# Altium schematic symbol library Capacitors.SchLib: 12 symbols
Pins are listed as number, name and electrical type; pins without a type are passive.

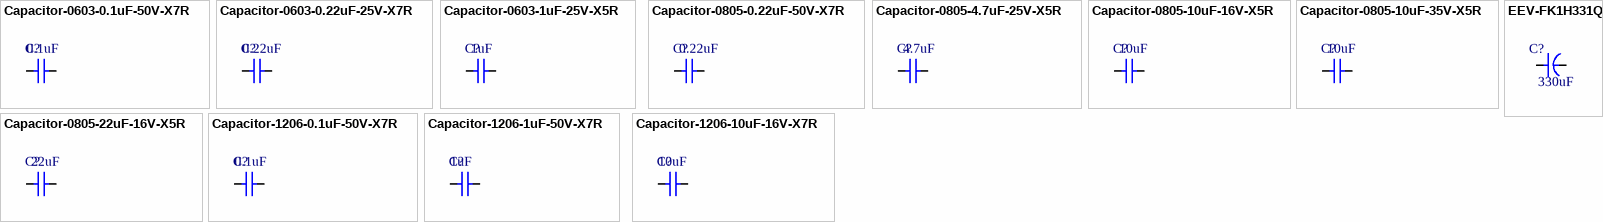
[diagram p0: symbols Capacitor-0603-0.1uF-50V-X7R to EEV-FK1H331Q]

## Capacitor-0603-0.1uF-50V-X7R
designator C?  value 0.1uF  (hidden comment: Capacitor-0603-0.1uF-50V-X7R)
Precision: X7R-10%; Volt: 50V; Package / Case: Metric 1608, EIA 0603; Mounted: Yes; Supplier 1: Digi-Key; Supplier Part Number 1: 1276-1935-2-ND; Supplier 2: Digi-Key; Supplier 3: Digi-Key; Supplier 4: Digi-Key; Supplier Part Number 2: 1276-1934-2-ND
footprint CAPACITOR-0603 (Metric 1608, EIA 0603)
pins: 1, 2

## Capacitor-0603-0.22uF-25V-X7R
designator C?  value 0.22uF  (hidden comment: Capacitor-0603-0.22uF-25V-X7R)
Precision: X7R-10%; Volt: 25V; Package / Case: Metric 1608, EIA 0603; Mounted: Yes; Supplier 1: Digi-Key; Supplier Part Number 1: 490-4935-2-ND; Supplier 2: Digi-Key; Supplier 3: Digi-Key; Supplier 4: Digi-Key
footprint CAPACITOR-0603 (Metric 1608, EIA 0603)
pins: 1, 2

## Capacitor-0603-1uF-25V-X5R
designator C?  value 1uF  (hidden comment: Capacitor-0603-1uF-25V-X5R)
Precision: X5R-10%; Volt: 25V; Package / Case: Metric 1608, EIA 0603; Mounted: Yes; Supplier 1: Digi-Key; Supplier Part Number 1: 1276-1859-2-ND; Supplier 2: Digi-Key; Supplier 3: Digi-Key; Supplier 4: Digi-Key; Supplier Part Number 2: 1276-1942-2-ND
footprint CAPACITOR-0603 (Metric 1608, EIA 0603)
pins: 1, 2

## Capacitor-0805-0.22uF-50V-X7R
designator C?  value 0.22uF  (hidden comment: Capacitor-0805-0.22uF-50V-X7R)
Precision: X7R-10%; Volt: 50V; Package / Case: Metric 2012 , EIA 0805; Mounted: Yes; Supplier 1: Digi-Key; Supplier Part Number 1: 399-C0805C224K5RACTUTR-ND; Supplier 2: Digi-Key; Supplier 3: Digi-Key; Supplier 4: Digi-Key
footprint CAPACITOR-0805 (Metric 2012, EIA 0805, Per Yageo Product Specification V2.2)
pins: 1, 2

## Capacitor-0805-4.7uF-25V-X5R
designator C?  value 4.7uF  (hidden comment: Capacitor-0805-4.7uF-25V-X5R)
Precision: X5R-10%; Volt: 25V; Package / Case: Metric 2012 , EIA 0805; Mounted: Yes; Supplier 1: Digi-Key; Supplier Part Number 1: 1276-1244-2-ND; Supplier 2: Digi-Key; Supplier 3: Digi-Key; Supplier 4: Digi-Key
footprint CAPACITOR-0805 (Metric 2012, EIA 0805, Per Yageo Product Specification V2.2)
pins: 1, 2

## Capacitor-0805-10uF-16V-X5R
designator C?  value 10uF  (hidden comment: Capacitor-0805-10uF-16V-X5R)
Precision: X5R-10%; Volt: 16V; Package / Case: Metric 2012 , EIA 0805; Mounted: Yes; Supplier 1: Digi-Key; Supplier Part Number 1: 1276-1096-2-ND; Supplier 2: Digi-Key; Supplier 3: Digi-Key; Supplier 4: Digi-Key
footprint CAPACITOR-0805 (Metric 2012, EIA 0805, Per Yageo Product Specification V2.2)
pins: 1, 2

## Capacitor-0805-10uF-35V-X5R
designator C?  value 10uF  (hidden comment: Capacitor-0805-10uF-35V-X5R)
Precision: X5R-10%; Volt: 35V; Package / Case: Metric 2012 , EIA 0805; Mounted: Yes; Supplier 1: Digi-Key; Supplier Part Number 1: 490-10515-1-ND; Supplier 2: Digi-Key; Supplier 3: Digi-Key; Supplier 4: Digi-Key
footprint CAPACITOR-0805 (Metric 2012, EIA 0805, Per Yageo Product Specification V2.2)
pins: 1, 2

## Capacitor-0805-22uF-16V-X5R
designator C?  value 22uF  (hidden comment: Capacitor-0805-22uF-16V-X5R)
Precision: X5R-10%; Volt: 16V; Package / Case: Metric 2012 , EIA 0805; Mounted: Yes; Supplier 1: Digi-Key; Supplier Part Number 1: 1276-6780-1-ND; Supplier 2: Digi-Key; Supplier 3: Digi-Key; Supplier 4: Digi-Key
footprint CAPACITOR-0805 (Metric 2012, EIA 0805, Per Yageo Product Specification V2.2)
pins: 1, 2

## Capacitor-1206-0.1uF-50V-X7R
designator C?  value 0.1uF  (hidden comment: Capacitor-1206-0.1uF-50V-X7R)
Precision: X7R-10%; Volt: 50V; Package / Case: Metric 3216, EIA 1206; Mounted: Yes; Supplier 1: Digi-Key; Supplier Part Number 1: 399-C1206C104K5RAC7800TR-ND; Supplier 2: Digi-Key; Supplier 3: Digi-Key; Supplier 4: Digi-Key; Supplier Part Number 2: 399-C1206C104M5RAC7800TR-ND
footprint CAPACITOR-1206 (Metric 3216, EIA 1206, Per Yageo Product Specification V2.2)
pins: 1, 2

## Capacitor-1206-1uF-50V-X7R
designator C?  value 1uF  (hidden comment: Capacitor-1206-1uF-50V-X7R)
Precision: X7R-10%; Volt: 50V; Package / Case: Metric 3216, EIA 1206; Mounted: Yes; Supplier 1: Digikey; Supplier Part Number 1: 399-C1206C105K5RAC7800CT-ND
footprint CAPACITOR-1206 (Metric 3216, EIA 1206, Per Yageo Product Specification V2.2)
pins: 1, 2

## Capacitor-1206-10uF-16V-X7R
designator C?  value 10uF  (hidden comment: Capacitor-1206-10uF-16V-X7R)
Precision: X7R-10%; Volt: 16V; Package / Case: Metric 3216, EIA 1206; Mounted: Yes; Supplier 1: Digikey; Supplier Part Number 1: 399-C1206C106K4RAC7800CT-ND
footprint CAPACITOR-1206 (Metric 3216, EIA 1206, Per Yageo Product Specification V2.2)
pins: 1, 2

## EEV-FK1H331Q
designator C?  value 330uF  (hidden comment: *)
CAP ALUM 330UF 20% 50V SMD; Mfr_Name: Panasonic; Type: Ceramic Capacitors; Supplier 1: Digikey; Supplier Part Number 1: PCE3475CT-ND
footprint CAP_EEFK_H13_PAN
footprint CAP_EEFK_H13_PAN-M
pins: 1, 2